# Altium schematic symbol library ESC.SchLib: 22 symbols
Pins are listed as number, name and electrical type; pins without a type are passive.

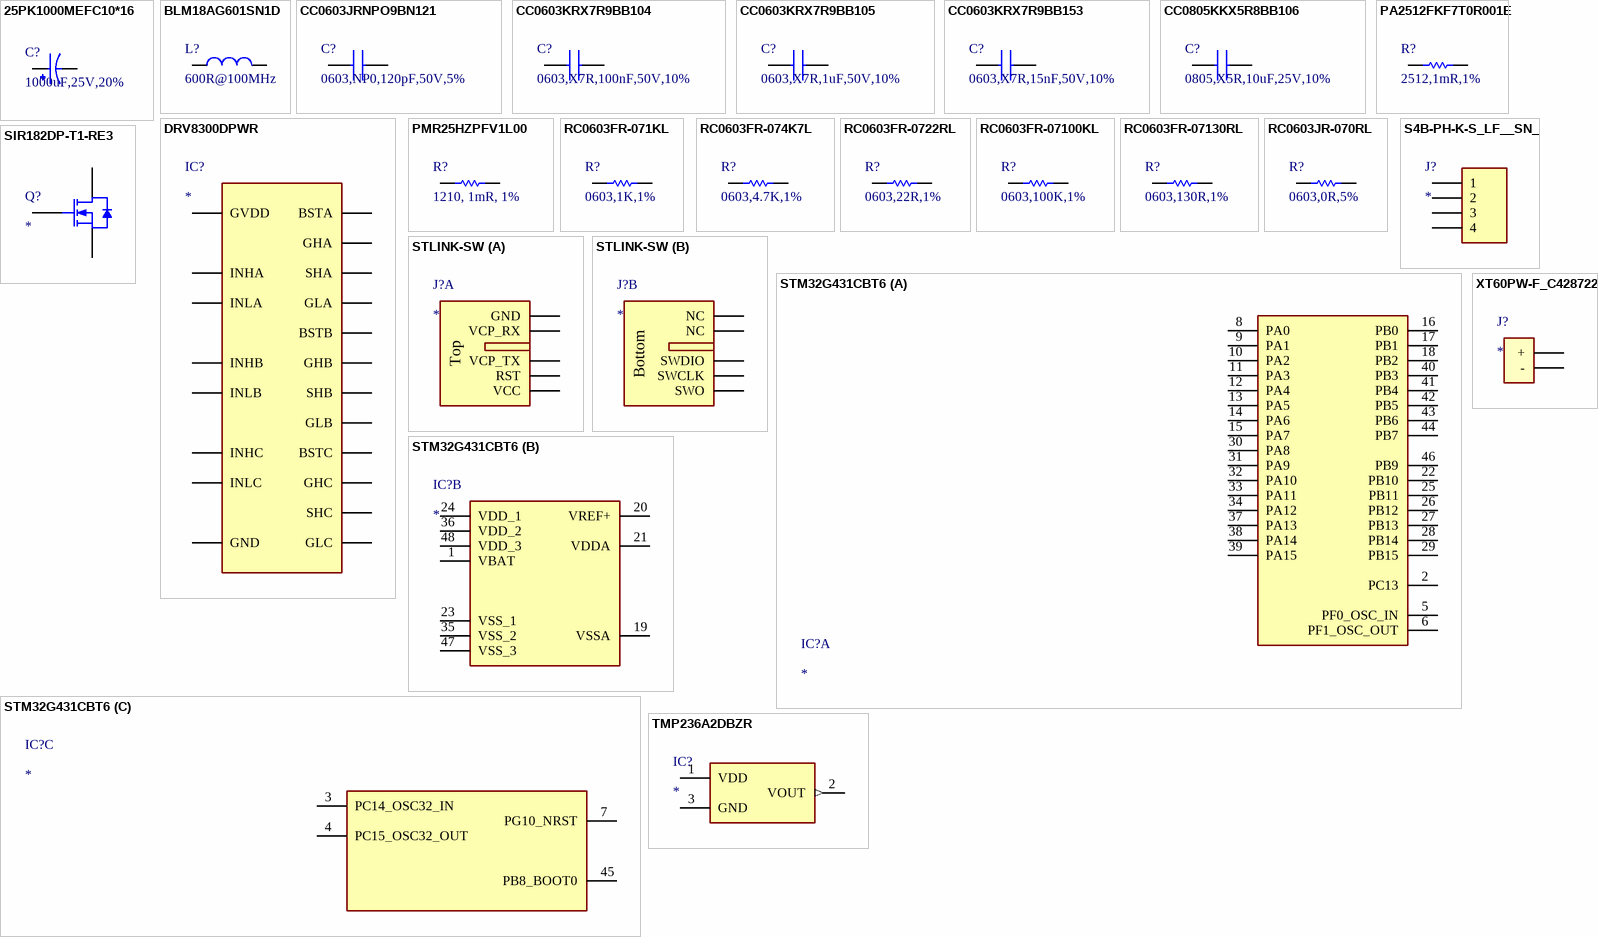
[diagram p0: symbols 25PK1000MEFC10*16 to XT60PW-F_C428722]

## 25PK1000MEFC10*16
designator C?, comment 1000uF,25V,20%
1000uF 25V ±20% 870mA@120Hz Through Hole,D10xL16mm Aluminum Electrolytic Capacitors - Leaded ROHS; LCSC Part #: C109451
footprint CAP-TH_BD10.0-P5.00-D1.0-FD
pins: 1, 2

## BLM18AG601SN1D
designator L?, comment 600R@100MHz
380mΩ ±25% 600Ω@100MHz 0603 Ferrite Beads ROHS; LCSC Part #: C19330
footprint L0603
pins: 1, 2

## CC0603JRNPO9BN121
designator C?, comment 0603,NP0,120pF,50V,5%
50V 120pF NP0 ±5% 0603 Multilayer Ceramic Capacitors MLCC - SMD/SMT ROHS; Manufacturer_Name: YAGEO; Manufacturer_Part_Number: CC0603JRNPO9BN121; Datasheet Link: https://componentsearchengine.com/Datasheets/2/CC0603KRX7R9BB104.pdf; Height: 0.9mm; Mouser Part Number: 603-CC603KRX7R9BB104; Mouser Price/Stock: https://www.mouser.co.uk/ProductDetail/YAGEO/CC0603KRX7R9BB104?qs=vTakOoo5QyLvVCYM2ge8LQ%3D%3D; Arrow Part Number: CC0603KRX7R9BB104; Arrow Price/Stock: https://www.arrow.com/en/products/cc0603krx7r9bb104/yageo?utm_currency=USD&region=europe; LCSC Part #: C107035
footprint CAPC1608X90N
pins: 1, 2

## CC0603KRX7R9BB104
designator C?, comment 0603,X7R,100nF,50V,10%
50V 100nF X7R ±10% 0603 Multilayer Ceramic Capacitors MLCC - SMD/SMT ROHS; Manufacturer_Name: YAGEO; Manufacturer_Part_Number: CC0603KRX7R9BB104; Datasheet Link: https://componentsearchengine.com/Datasheets/2/CC0603KRX7R9BB104.pdf; Height: 0.9mm; Mouser Part Number: 603-CC603KRX7R9BB104; Mouser Price/Stock: https://www.mouser.co.uk/ProductDetail/YAGEO/CC0603KRX7R9BB104?qs=vTakOoo5QyLvVCYM2ge8LQ%3D%3D; Arrow Part Number: CC0603KRX7R9BB104; Arrow Price/Stock: https://www.arrow.com/en/products/cc0603krx7r9bb104/yageo?utm_currency=USD&region=europe; LCSC Part #: C14663
footprint CAPC1608X90N
pins: 1, 2

## CC0603KRX7R9BB105
designator C?, comment 0603,X7R,1uF,50V,10%
50V 1uF X7R ±10% 0603 Multilayer Ceramic Capacitors MLCC - SMD/SMT ROHS; Manufacturer_Name: YAGEO; Manufacturer_Part_Number: CC0603KRX7R9BB105; Datasheet Link: https://www.yageo.com/upload/media/product/app/datasheet/mlcc/upy-gphc_x7r_6_3v-to-250v.pdf; Height: 0.95mm; Mouser Part Number: 603-CC603KRX7R9BB105; Mouser Price/Stock: https://www.mouser.co.uk/ProductDetail/YAGEO/CC0603KRX7R9BB105?qs=6wERJjOp3mmF17%252BYi8cgJQ%3D%3D; Arrow Part Number: CC0603KRX7R9BB105; Arrow Price/Stock: https://www.arrow.com/en/products/cc0603krx7r9bb105/yageo?utm_currency=USD&region=nac; LCSC Part #: C559769
footprint CAPC1608X90N
pins: 1, 2

## CC0603KRX7R9BB153
designator C?, comment 0603,X7R,15nF,50V,10%
50V 15nF X7R ±10% 0603 Multilayer Ceramic Capacitors MLCC - SMD/SMT ROHS; Manufacturer_Name: YAGEO; Manufacturer_Part_Number: CC0603KRX7R9BB153; Datasheet Link: https://componentsearchengine.com/Datasheets/2/CC0603KRX7R9BB104.pdf; Height: 0.9mm; Mouser Part Number: 603-CC603KRX7R9BB104; Mouser Price/Stock: https://www.mouser.co.uk/ProductDetail/YAGEO/CC0603KRX7R9BB104?qs=vTakOoo5QyLvVCYM2ge8LQ%3D%3D; Arrow Part Number: CC0603KRX7R9BB104; Arrow Price/Stock: https://www.arrow.com/en/products/cc0603krx7r9bb104/yageo?utm_currency=USD&region=europe; LCSC Part #: C107076
footprint CAPC1608X90N
pins: 1, 2

## CC0805KKX5R8BB106
designator C?, comment 0805,X5R,10uF,25V,10%
10 µF ±10% 25V Ceramic Capacitor X5R 0805 (2012 Metric); Manufacturer_Name: YAGEO; Manufacturer_Part_Number: CC0805KKX5R8BB106; Datasheet Link: https://www.yageo.com/upload/media/product/productsearch/datasheet/mlcc/UPY-GPHC_X5R_4V-to-50V_27.pdf; Height: 1.45mm; Mouser Part Number: 603-CC805KKX5R8BB106; Mouser Price/Stock: https://www.mouser.co.uk/ProductDetail/YAGEO/CC0805KKX5R8BB106?qs=57cj7OiSijm89pM64t1AGQ%3D%3D; Arrow Part Number: CC0805KKX5R8BB106; Arrow Price/Stock: https://www.arrow.com/en/products/cc0805kkx5r8bb106/yageo?utm_currency=USD&region=nac; LCSC Part #: C89831
footprint CAPC2012X145N
pins: 1, 2

## DRV8300DPWR
designator IC?
TSSOP-20 Brushless DC (BLDC) Motor Driver ROHS; Manufacturer_Name: Texas Instruments; Manufacturer_Part_Number: DRV8300DPWR; Height: 1.2mm; Mouser Part Number: 595-DRV8300DPWR; Mouser Price/Stock: https://www.mouser.co.uk/ProductDetail/Texas-Instruments/DRV8300DPWR?qs=eP2BKZSCXI6qJbKdYnGwBg%3D%3D; Arrow Part Number: DRV8300DPWR; Arrow Price/Stock: https://www.arrow.com/en/products/drv8300dpwr/texas-instruments?utm_currency=USD&region=nac; LCSC Part #: C3036056
footprint SOP65P640X120-20N
pins: 1 INHA, 2 INHB, 3 INHC, 4 INLA, 5 INLB, 6 INLC, 7 GVDD, 8 GND, 9 GLC, 10 GLB, 11 GLA, 12 SHC, 13 GHC, 14 BSTC, 15 SHB, 16 GHB, 17 BSTB, 18 SHA, 19 GHA, 20 BSTA

## PA2512FKF7T0R001E
designator R?, comment 2512,1mR,1%
3W 1mΩ Surface Mount Current Sense Resistor ±100ppm/℃ ±1% 2512 Current Sense Resistors / Shunt Resistors ROHS; LCSC Part #: C723380
footprint RES-SMD_L6.4-W3.2_RLP25
pins: 1, 2

## PMR25HZPFV1L00
designator R?, comment 1210, 1mR, 1%
1W 1mΩ Current Sense Resistor ±100ppm/℃ ±1% 1210 Current Sense Resistors / Shunt Resistors ROHS; LCSC Part #: C509735
footprint R1210
pins: 1, 2

## RC0603FR-071KL
designator R?, comment 0603,1K,1%
100mW Thick Film Resistor 75V ±100ppm/℃ ±1% 1kΩ 0603 Chip Resistor - Surface Mount ROHS; Manufacturer_Name: YAGEO; Manufacturer_Part_Number: RC0603FR-071KL; Datasheet Link: https://www.mouser.com/catalog/specsheets/YAGEO_PYu_RC_Group_51_RoHS_L_12.pdf; Height: 0.55mm; LCSC Part #: C22548
footprint RESC1608X55N
pins: 1, 2

## RC0603FR-074K7L
designator R?, comment 0603,4.7K,1%
100mW Thick Film Resistor 75V ±100ppm/℃ ±1% 4.7kΩ 0603 Chip Resistor - Surface Mount ROHS; Manufacturer_Name: YAGEO; Manufacturer_Part_Number: RC0603FR-074K7L; Datasheet Link: https://www.mouser.com/catalog/specsheets/YAGEO_PYu_RC_Group_51_RoHS_L_12.pdf; Height: 0.55mm; LCSC Part #: C99782
footprint RESC1608X55N
pins: 1, 2

## RC0603FR-0722RL
designator R?, comment 0603,22R,1%
100mW Thick Film Resistor 75V ±100ppm/℃ ±1% 22Ω 0603 Chip Resistor - Surface Mount ROHS; Manufacturer_Name: YAGEO; Manufacturer_Part_Number: RC0603FR-0722RL; Datasheet Link: http://www.farnell.com/datasheets/1868787.pdf; Height: 0.55mm; Mouser Part Number: 603-RC0603FR-0722RL; Mouser Price/Stock: https://www.mouser.co.uk/ProductDetail/YAGEO/RC0603FR-0722RL?qs=diQw95jMAeMOsxb8bne7fg%3D%3D; Arrow Part Number: RC0603FR-0722RL; Arrow Price/Stock: https://www.arrow.com/en/products/rc0603fr-0722rl/yageo?region=nac; LCSC Part #: C107701
footprint RESC1608X55N
pins: 1, 2

## RC0603FR-07100KL
designator R?, comment 0603,100K,1%
100mW Thick Film Resistor 75V ±100ppm/℃ ±1% 100kΩ 0603 Chip Resistor - Surface Mount ROHS; Manufacturer_Name: YAGEO; Manufacturer_Part_Number: RC0603FR-07100KL; Datasheet Link: https://www.mouser.com/catalog/specsheets/YAGEO_PYu_RC_Group_51_RoHS_L_12.pdf; Height: 0.55mm; LCSC Part #: C14675
footprint RESC1608X55N
pins: 1, 2

## RC0603FR-07130RL
designator R?, comment 0603,130R,1%
130 Ohms ±1% 0.1W, 1/10W Chip Resistor 0603 (1608 Metric) Moisture Resistant Thick Film; Manufacturer_Name: YAGEO; Manufacturer_Part_Number: RC0603FR-07130RL; Datasheet Link: https://www.mouser.com/catalog/specsheets/YAGEO_PYu_RC_Group_51_RoHS_L_12.pdf; Height: 0.55mm; LCSC Part #: C141677
footprint RESC1608X55N
pins: 1, 2

## RC0603JR-070RL
designator R?, comment 0603,0R,5%
100mW Thick Film Resistor 75V ±5% 0Ω 0603 Chip Resistor - Surface Mount ROHS; Manufacturer_Name: YAGEO; Manufacturer_Part_Number: RC0603JR-070RL; Datasheet Link: https://www.mouser.com/catalog/specsheets/YAGEO_PYu_RC_Group_51_RoHS_L_12.pdf; Height: 0.55mm; LCSC Part #: C95177
footprint RESC1608X55N
pins: 1, 2

## S4B-PH-K-S_LF__SN_
designator J?
1x4P 4P PH Tin 4 -25℃~+85℃ 2A 1 2mm Brass Right Angle Through Hole,Right Angle,P=2mm Wire To Board Connector ROHS; Manufacturer_Name: JST (JAPAN SOLDERLESS TERMINALS); Manufacturer_Part_Number: S4B-PH-K-S(LF)(SN); Datasheet Link: https://datasheet.lcsc.com/szlcsc/JST-Sales-America-PHsocket-1-4P-Curved-needle-pitch2mm_C157926.pdf; Height: 4.8mm; Mouser Part Number: N/A; Mouser Price/Stock: https://www.mouser.co.uk/ProductDetail/JST-Commercial/S4B-PH-K-SLFSN?qs=QpmGXVUTftEGA16rwNx4xw%3D%3D; Arrow Part Number: S4B-PH-K-S(LF)(SN); Arrow Price/Stock: https://www.arrow.com/en/products/s4b-ph-k-s-lf-sn/jst-manufacturing?utm_currency=USD&region=europe; LCSC Part #: C157926
footprint SHDRRA4W50P0X200_1X4_990X760X480P
pins: 1, 2, 3, 4

## SIR182DP-T1-RE3
designator Q?
60V 117A 2.8mΩ@10V,15A 2V 1 N-Channel PowerPAKSO-8 MOSFETs ROHS; LCSC Part #: C467943
footprint POWERPAK-SO-8_L5.9-W4.9-P1.27-LS6.2-BL
pins: 1 S, 2 S, 3 S, 4 G, 5 D, 6 D, 7 D, 8 D

## STLINK-SW
designator J?  (no BOM)
SSL Connector 10 Position Adapter, Bridge Board to Board - Card Edge 0.079" (2.00mm)
footprint 009159010061911
part A pins: 1 GND, 2 VCP_RX, 3 VCP_TX, 4 RST, 5 VCC
part B pins: 6 NC, 7 NC, 8 SWDIO, 9 SWCLK, 10 SWO
part A text: Top
part B text: Bottom

## STM32G431CBT6
designator IC?
Arm Cortex-M4 32-bit MCU+FPU, 170 MHz / 213 DMIPS, up to 128 KB Flash, 32 KB SRAM, rich analog, math accelerator; Manufacturer_Name: STMicroelectronics; Manufacturer_Part_Number: STM32G431CBT6; Datasheet Link: https://www.st.com/resource/en/datasheet/stm32g431cb.pdf; Height: 1.6mm; Mouser Part Number: 511-STM32G431CBT6; Mouser Price/Stock: https://www.mouser.co.uk/ProductDetail/STMicroelectronics/STM32G431CBT6?qs=T3oQrply3y8OocyGDXq5wg%3D%3D; Arrow Part Number: STM32G431CBT6; Arrow Price/Stock: https://www.arrow.com/en/products/stm32g431cbt6/stmicroelectronics?utm_currency=USD&region=nac; LCSC Part #: C529355
footprint QFP50P900X900X160-48N
part A pins: 2 PC13, 5 PF0_OSC_IN, 6 PF1_OSC_OUT, 8 PA0, 9 PA1, 10 PA2, 11 PA3, 12 PA4, 13 PA5, 14 PA6, 15 PA7, 16 PB0, 17 PB1, 18 PB2, 22 PB10, 25 PB11, 26 PB12, 27 PB13, 28 PB14, 29 PB15, 30 PA8, 31 PA9, 32 PA10, 33 PA11, 34 PA12, 37 PA13, 38 PA14, 39 PA15, 40 PB3, 41 PB4, 42 PB5, 43 PB6, 44 PB7, 46 PB9
part B pins: 1 VBAT, 19 VSSA, 20 VREF+, 21 VDDA, 23 VSS_1, 24 VDD_1, 35 VSS_2, 36 VDD_2, 47 VSS_3, 48 VDD_3
part C pins: 3 PC14_OSC32_IN, 4 PC15_OSC32_OUT, 7 PG10_NRST, 45 PB8_BOOT0

## TMP236A2DBZR
designator IC?
Low-power and high-precision analog output temperature sensor; Manufacturer_Name: Texas Instruments; Manufacturer_Part_Number: TMP236A2DBZR; Datasheet Link: http://www.ti.com/lit/gpn/tmp236; Height: 1.12mm; Mouser Part Number: 595-TMP236A2DBZR; Mouser Price/Stock: https://www.mouser.co.uk/ProductDetail/Texas-Instruments/TMP236A2DBZR?qs=lc2O%252BfHJPVanftlPgPUvow%3D%3D; Arrow Part Number: TMP236A2DBZR; Arrow Price/Stock: https://www.arrow.com/en/products/tmp236a2dbzr/texas-instruments?region=nac; LCSC Part #: C2859666
footprint SOT95P237X112-3N
pins: 1 VDD (power), 2 VOUT (out), 3 GND (power)

## XT60PW-F_C428722
designator J?
XT60 Female Right Angle Plug Through Hole PCB Mount; LCSC Part #: C428722
footprint TH_2P-XT60PW-F
pins: 3 +, 4 -